# Altium footprint library TCJD226M035R0070.PcbLib: 1 footprints
Each footprint in its own frame and in the unit in brackets; x right, y up, seen from the top. Pads: shape width x height; smd on the part's side, far side on the other; paste and mask are expansions set on the pad; w line width, h text height; cw(c..) or ccw(c..) is an arc to the next point about the centre after c.
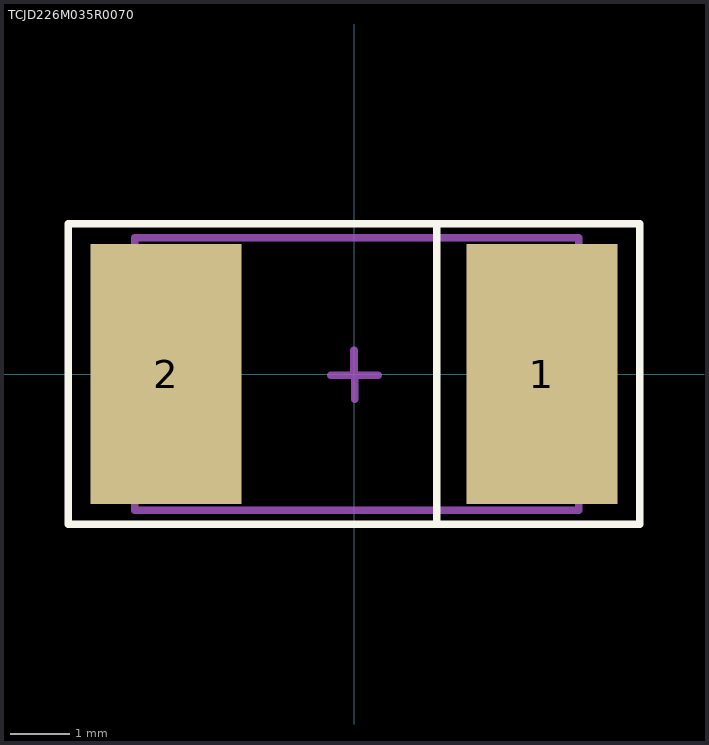
[diagram p0: the footprint, top view; thin cyan lines are the x and y axes]

## TCJD226M035R0070 [mm]
pads (2):
  rect 2.55x4.4 smd mask+0.051: 1(3.175,0) 2(-3.175,0)
Top Overlay:
  lines w0.127: 1.397,-2.54 1.397,2.54 ; -4.826,-2.54 4.826,-2.54 4.826,2.54 -4.826,2.54 -4.826,2.286 -4.826,-2.54
Mechanical 13:
  lines w0.127: -3.7,-2.3 -3.7,2.3 3.8,2.3 3.8,-2.3 -3.7,-2.3
Mechanical 15:
  lines w0.127: -0.393,-0.025 0.007,-0.025 ; 0,0 0,0.4 ; 0.009,-0.025 0.409,-0.025 ; 0.012,-0.425 0.012,-0.025
3D body "TCJD_AVX.step": height 3.17, standoff 0.03, extent -3.746,-2.248 3.746,2.248